# Altium schematic symbol library MS-USMF.SchLib: 1 symbol
Pins are listed as number, name and electrical type; pins without a type are passive.

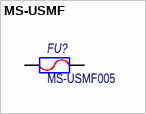
[diagram p0: symbol MS-USMF]

## MS-USMF
designator FU?, comment MS-USMF005
MF-USMF Series - PTC Resettable Fuses; Value: 0.05 А; Потребление, Вт: 0.0; Наименование: MS-USMF005; Назначение: PTC Resettable Fuses
footprint MS-USMF
pins: 1, 2